# Altium schematic symbol library IC OPAMP GP 4 CIRCUIT 14TSSOP.SchLib: 1 symbol
Pins are listed as number, name and electrical type; pins without a type are passive.

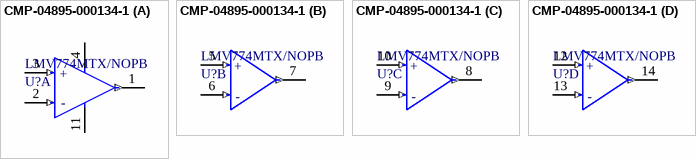
[diagram p0: symbol CMP-04895-000134-1]

## CMP-04895-000134-1
designator U?, comment LMV774MTX/NOPB
IC OPAMP QUAD LO NOISE 14-TSSOP; Common Mode Rejection Ratio: 80dB; Operating Supply Current: 600uA; Input Offset Voltage (Vos): 1mV; Number of Channels: 4; Nominal Supply Current: 550uA; Power Supply Rejection Ratio (PSRR): 82dB; Min Supply Voltage: 2.7V; Output Current per Channel: 75mA; Slew Rate: 1.4V/µs; Output Current: 18mA; Unity Gain Bandwidth Product: 3.5MHz; Voltage Gain: 100dB; Max Supply Voltage: 5.5V; Amplifier Type: GENERAL PURPOSE; Input Bias Current: 100pA; Contact Plating: Tin; Packaging: Tape and Reel; REACH SVHC: No SVHC; Case/Package: TSSOP; Mount: Surface Mount; RoHS Compliant: Yes; Radiation Hardening: No; Number of Amplifiers: 4; Number of Pins: 14; Number of Circuits: 4; Package Quantity: 2500; Min Operating Temperature: -40°C; Lead Free: Lead Free; Gain Bandwidth Product: 3.5MHz; Bandwidth: 3.5MHz; Number of Elements: 4; Supply Current: 550uA; Max Operating Temperature: 125°C
footprint FP-PW0014A-IPC_C
footprint FP-PW0014A-IPC_B
footprint FP-PW0014A-MFG
footprint FP-PW0014A-IPC_A
part A pins: 1 OUT A (out), 2 IN A- (in), 3 IN A+ (in), 4 V+ (power), 11 V- (power)
part B pins: 5 IN B+ (in), 6 IN B- (in), 7 OUT B (out)
part C pins: 8 OUT C (out), 9 IN C- (in), 10 IN C+ (in)
part D pins: 12 IN D+ (in), 13 IN D- (in), 14 OUT D (out)
part A text: +; -
part B text: +; -
part C text: +; -
part D text: +; -